# EAGLE library part ADS1220IPWR (library ADS1220IPWR)
24-bit, 2-kSPS, 4-ch, low-power, small-size delta-sigma ADC w/ PGA, VREF, 2x IDACs & SPI interface Source: Datasheet <http://www.ti.com/lit/gpn/ads1220>
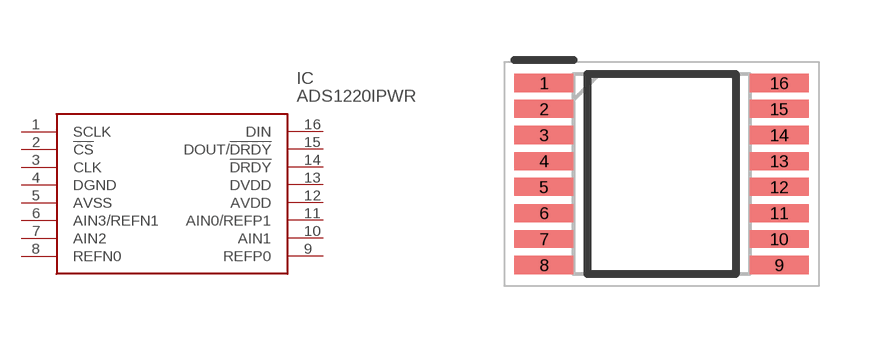
[diagram p0: symbol with the pads of SOP65P640X120-16N; footprint SOP65P640X120-16N]

Designator prefix IC

## ADS1220IPWR (Arrow_Part_Number: ADS1220IPWR; Arrow_Price-Stock: https://www.arrow.com/en/products/ads1220ipwr/texas-instruments?utm_currency=USD&region=nac; Description: 24-bit, 2-kSPS, 4-ch, low-power, small-size delta-sigma ADC w/ PGA, VREF, 2x IDACs & SPI interface; Height: 1.2mm; Manufacturer_Name: Texas Instruments; Manufacturer_Part_Number: ADS1220IPWR; Mouser_Part_Number: 595-ADS1220IPWR; Mouser_Price-Stock: https://www.mouser.co.uk/ProductDetail/Texas-Instruments/ADS1220IPWR?qs=5GI1giJCN%252BI6s%2FWJGbZXXQ%3D%3D)  [SOP65P640X120-16N]
1  SCLK
2  !CS
3  CLK
4  DGND
5  AVSS
6  AIN3/REFN1
7  AIN2
8  REFN0
9  REFP0
10  AIN1
11  AIN0/REFP1
12  AVDD
13  DVDD
14  !DRDY
15  DOUT/!DRDY
16  DIN

## Footprint SOP65P640X120-16N (pad centres in mm)
PW (R-PDSO-G16)
smd 1.475 x 0.45: 1 -2.938,2.275; 2 -2.938,1.625; 3 -2.938,0.975; 4 -2.938,0.325; 5 -2.938,-0.325; 6 -2.938,-0.975; 7 -2.938,-1.625; 8 -2.938,-2.275; 9 2.938,-2.275; 10 2.938,-1.625; 11 2.938,-0.975; 12 2.938,-0.325; 13 2.938,0.325; 14 2.938,0.975; 15 2.938,1.625; 16 2.938,2.275